# EAGLE library part LAUNCHPAD_CARRIERCARD (library 000_CustomPartsMaster)
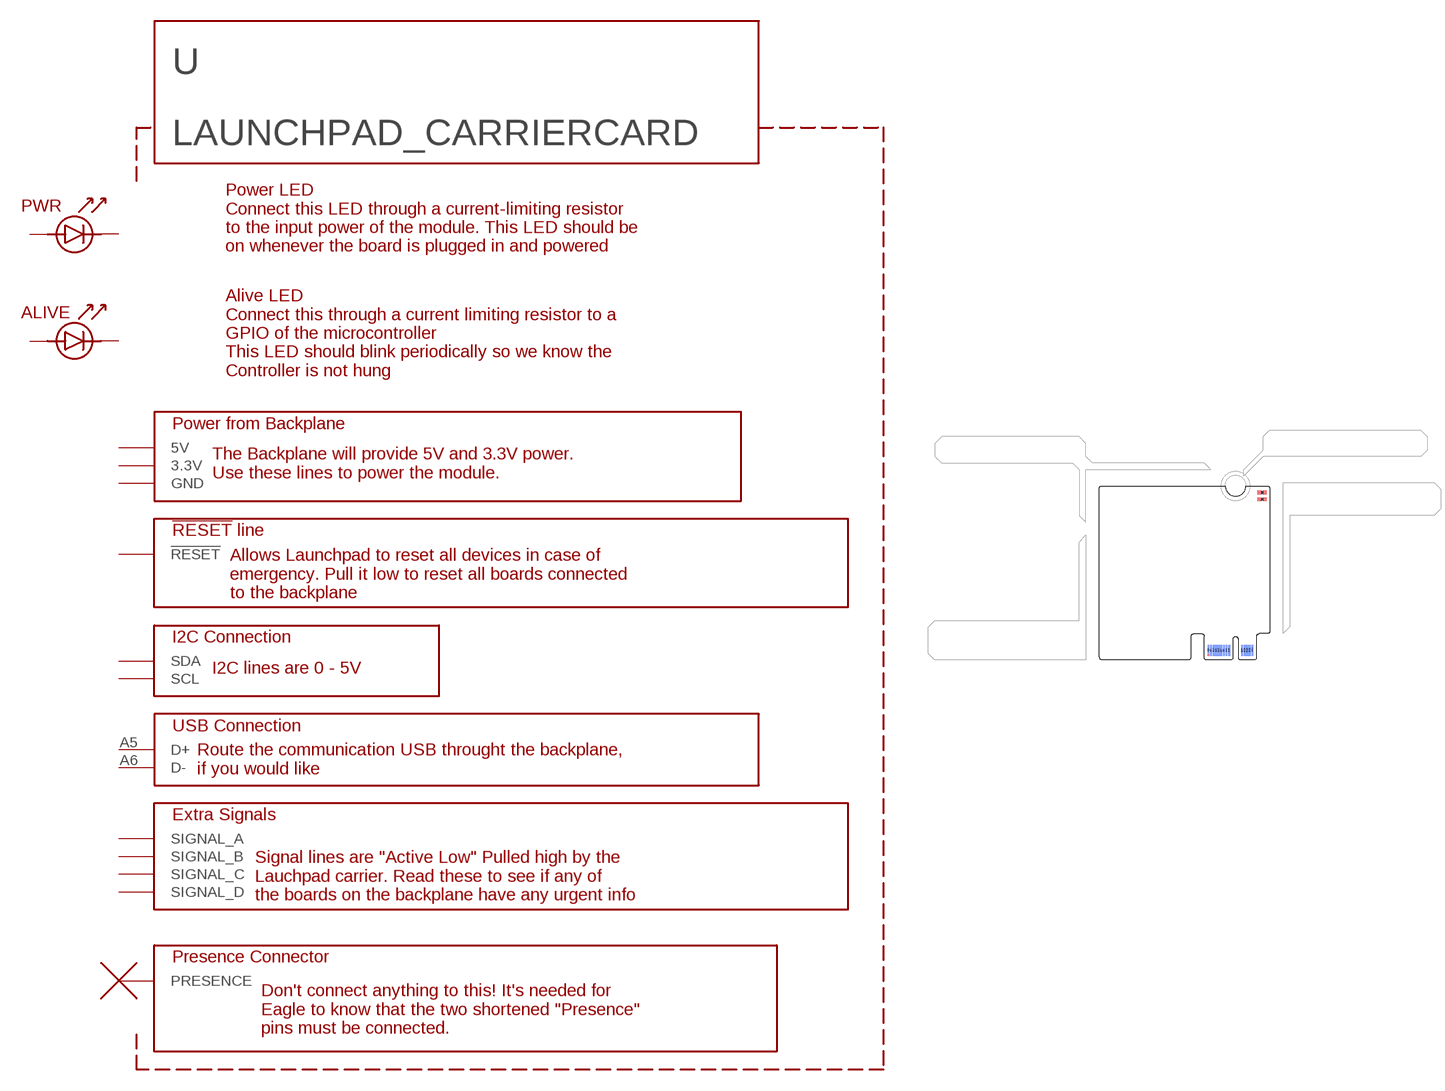
[diagram p13: symbol with the pads of SUBSYSTEM2016_V2-LAUNCHPADCARRIER; footprint SUBSYSTEM2016_V2-LAUNCHPADCARRIER]

Designator prefix -

## LAUNCHPAD_CARRIERCARD  [SUBSYSTEM2016_V2-LAUNCHPADCARRIER]
A2  PRESENCE  nc
A3  3.3V
A4  3.3V
A5  D+
A6  D-
A7  GND
A8  GND
A9  GND
A10  GND
A13  SIGNAL_C
A14  SIGNAL_C
A15  SIGNAL_D
A16  SIGNAL_D
ALIVELED_ANODE  ALIVELED_ANODE
ALIVELED_CATHODE  ALIVELED_CATHODE
B2  5V
B3  5V
B5  !RESET
B6  !RESET
B7  SDA
B8  SDA
B9  SCL
B10  SCL
B13  SIGNAL_A
B14  SIGNAL_A
B15  SIGNAL_B
B16  SIGNAL_B
B17  PRESENCE  nc
PWRLED_ANODE  PWRLED_ANODE
PWRLED_CATHODE  PWRLED_CATHODE

## Footprint SUBSYSTEM2016_V2-LAUNCHPADCARRIER (pad centres in mm)
smd 0.7 x 3.2 bottom: A2 42.29,4.16
smd 0.7 x 4.2 bottom: A3 43.29,3.66; A4 44.29,3.66; A5 45.29,3.66; A6 46.29,3.66; A7 47.29,3.66; A8 48.29,3.66; A9 49.29,3.66; A10 50.29,3.66; A13 55.29,3.66; A14 56.29,3.66; A15 57.29,3.66; A16 58.29,3.66; A17 59.29,3.66
smd 1.45 x 1.4: ALIVELED_ANODE 61.942,62.23; ALIVELED_CATHODE 64.042,62.23; PWRLED_ANODE 61.942,64.77; PWRLED_CATHODE 64.042,64.77
smd 0.7 x 4.2: B2 42.29,3.66; B3 43.29,3.66; B4 44.29,3.66; B5 45.29,3.66; B6 46.29,3.66; B7 47.29,3.66; B8 48.29,3.66; B9 49.29,3.66; B10 50.29,3.66; B13 55.29,3.66; B14 56.29,3.66; B15 57.29,3.66; B16 58.29,3.66
smd 0.7 x 3.2: B17 59.29,4.16